# Altium integrated library TI Power Management Battery Management.IntLib: 949 symbols (part 56 of 62)
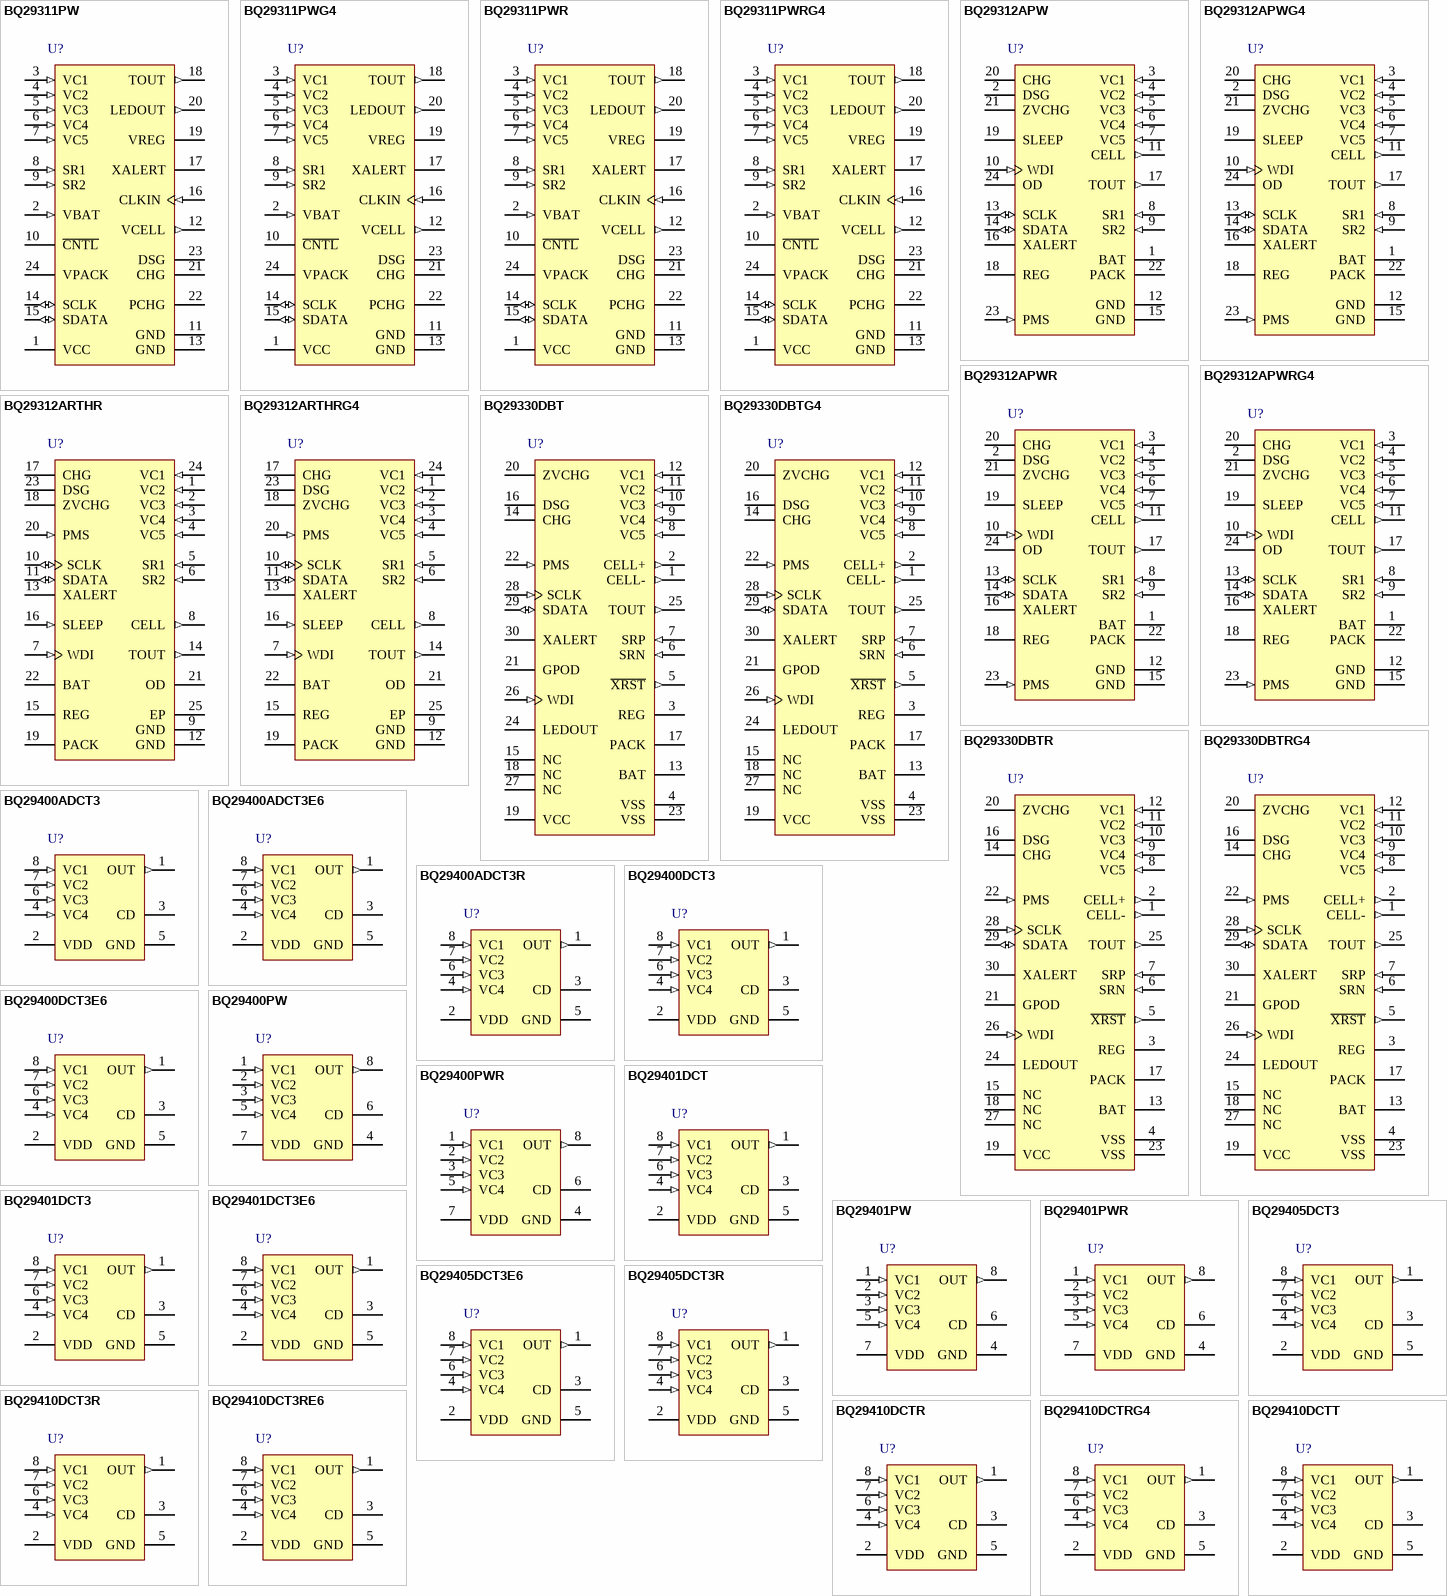
[diagram p89: symbols BQ29311PW to BQ29410DCTT]

## BQ29311PWG4
designator U?
3 to 4 Cell Lithium-Ion Protection IC for Use with BQ2083 / 5, -25 to 85 degC, 24-pin TSSOP (PW), Green (RoHS & no Sb/Br); PartNumber: BQ29311PWG4; Manufacturer: Texas Instruments; Lead Acid: N; Li-Ion: Y; SubFamily: Lithium Ion Protection; DatasheetVersion: SLUS487D; PackageVersion: revG, Feb-2011; PackageReference: PW24; PackageDescription: 24-Pin Thin Small Outline Package 0.65 mm Pitch; Supplier 1: Digi-Key; Supplier Part Number 1: BQ29311PWG4-ND; Supplier 2: Newark; Supplier Part Number 2: 27M2189; Supplier 3: Mouser; Supplier Part Number 3: 595-BQ29311PWG4; Eco-Plan: Green (RoHS & no Sb/Br); Li-Polymer: Y; NiCd: N; NiMH: N; Over Voltage Protection: Y; Mounting Technology: Surface Mount; Code_JEDEC: MO-153; ComponentLink1Description: Datasheet; ComponentLink1URL: http://www.ti.com/general/docs/lit/getliterature.tsp?genericPartNumber=BQ29311&fileType=pdf
footprint PW24_N (TSOP, 24-Leads, Body 7.8x4.4mm, Pitch 0.65mm, IPC Medium Density)
footprint PW24_L (TSOP, 24-Leads, Body 7.8x4.4mm, Pitch 0.65mm, IPC High Density)
footprint PW24_M (TSOP, 24-Leads, Body 7.8x4.4mm, Pitch 0.65mm, IPC Low Density)
pins: 1 VCC (power) "Diode protected BAT+ terminal and primary power source", 2 VBAT (in) "Battery positive terminal sense input for regulator shutdown", 3 VC1 (in) "Sense voltage input terminal for most positive cell and balance current input for most positive cell. Connected to VC2 in 3-cell applications", 4 VC2 (in) "Sense voltage input terminal for second most positive cell, balance current input for second most positive cell, and return balance current for most positive cell", 5 VC3 (in) "Sense voltage input terminal for third most positive cell, balance current input for third most positive cell and return balance current for second most positive cell", 6 VC4 (in) "Sense voltage input terminal for least positive cell, balance current input for least positive cell, and return balance current for third most positive cell", 7 VC5 (in) "Sense voltage input terminal for most negative cell, return balance current for least positive cell", 8 SR1 (in) "Current sense positive terminal when charging relative to SR2", 9 SR2 (in) "Current sense positive terminal when discharging relative to SR1", 10 ~{CNTL} "Active low input enables CHG, DSG and PCHG. Internal pullup", 11 GND (power) "Analog ground pin and negative pack terminal", 12 VCELL (out) "Output of scaled value of the measured cell voltage", 13 GND (power) "Analog ground pin and negative pack terminal", 14 SCLK (io) "Open-drain bidirectional serial interface clock with internal 10-kO pullup to VREG", 15 SDATA (io) "Open-drain bidirectional serial interface data with internal 10-kO pullup to VREG", 16 CLKIN (in) "Digital input that provides an alternate clock with internal 100-kO pullup to VREG", 17 XALERT (oc) "Open-drain output used to indicate status register changes. With internal 100 kO pullup to VREG", 18 TOUT (out) "Provides thermistor bias current", 19 VREG (power) "Integrated 3.3-V regulator output", 20 LEDOUT (out) "Provides current to drive LED capacity display", 21 CHG "Push-pull output charge FET gate voltage supply", 22 PCHG "Push-pull output precharge FET gate voltage supply", 23 DSG "Push-pull output discharge FET gate voltage supply", 24 VPACK (power) "Pack positive terminal and alternate power source"

## BQ29311PWR
designator U?
3 to 4 Cell Lithium-Ion Protection IC for Use with BQ2083 / 5, -25 to 85 degC, 24-pin TSSOP (PW), Green (RoHS & no Sb/Br); PartNumber: BQ29311PWR; Manufacturer: Texas Instruments; Lead Acid: N; Li-Ion: Y; SubFamily: Lithium Ion Protection; DatasheetVersion: SLUS487D; PackageVersion: revG, Feb-2011; PackageReference: PW24; PackageDescription: 24-Pin Thin Small Outline Package 0.65 mm Pitch; Supplier 1: Digi-Key; Supplier Part Number 1: BQ29311PWR-ND; Supplier 2: Newark; Supplier Part Number 2: 74C7683; Supplier 3: Mouser; Supplier Part Number 3: 595-BQ29311PWR; Eco-Plan: Green (RoHS & no Sb/Br); Li-Polymer: Y; NiCd: N; NiMH: N; Over Voltage Protection: Y; Mounting Technology: Surface Mount; Code_JEDEC: MO-153; ComponentLink1Description: Datasheet; ComponentLink1URL: http://www.ti.com/general/docs/lit/getliterature.tsp?genericPartNumber=BQ29311&fileType=pdf
footprint PW24_N (TSOP, 24-Leads, Body 7.8x4.4mm, Pitch 0.65mm, IPC Medium Density)
footprint PW24_L (TSOP, 24-Leads, Body 7.8x4.4mm, Pitch 0.65mm, IPC High Density)
footprint PW24_M (TSOP, 24-Leads, Body 7.8x4.4mm, Pitch 0.65mm, IPC Low Density)
pins: 1 VCC (power) "Diode protected BAT+ terminal and primary power source", 2 VBAT (in) "Battery positive terminal sense input for regulator shutdown", 3 VC1 (in) "Sense voltage input terminal for most positive cell and balance current input for most positive cell. Connected to VC2 in 3-cell applications", 4 VC2 (in) "Sense voltage input terminal for second most positive cell, balance current input for second most positive cell, and return balance current for most positive cell", 5 VC3 (in) "Sense voltage input terminal for third most positive cell, balance current input for third most positive cell and return balance current for second most positive cell", 6 VC4 (in) "Sense voltage input terminal for least positive cell, balance current input for least positive cell, and return balance current for third most positive cell", 7 VC5 (in) "Sense voltage input terminal for most negative cell, return balance current for least positive cell", 8 SR1 (in) "Current sense positive terminal when charging relative to SR2", 9 SR2 (in) "Current sense positive terminal when discharging relative to SR1", 10 ~{CNTL} "Active low input enables CHG, DSG and PCHG. Internal pullup", 11 GND (power) "Analog ground pin and negative pack terminal", 12 VCELL (out) "Output of scaled value of the measured cell voltage", 13 GND (power) "Analog ground pin and negative pack terminal", 14 SCLK (io) "Open-drain bidirectional serial interface clock with internal 10-kO pullup to VREG", 15 SDATA (io) "Open-drain bidirectional serial interface data with internal 10-kO pullup to VREG", 16 CLKIN (in) "Digital input that provides an alternate clock with internal 100-kO pullup to VREG", 17 XALERT (oc) "Open-drain output used to indicate status register changes. With internal 100 kO pullup to VREG", 18 TOUT (out) "Provides thermistor bias current", 19 VREG (power) "Integrated 3.3-V regulator output", 20 LEDOUT (out) "Provides current to drive LED capacity display", 21 CHG "Push-pull output charge FET gate voltage supply", 22 PCHG "Push-pull output precharge FET gate voltage supply", 23 DSG "Push-pull output discharge FET gate voltage supply", 24 VPACK (power) "Pack positive terminal and alternate power source"

## BQ29311PWRG4
designator U?
3 to 4 Cell Lithium-Ion Protection IC for Use with BQ2083 / 5, -25 to 85 degC, 24-pin TSSOP (PW), Green (RoHS & no Sb/Br); PartNumber: BQ29311PWRG4; Manufacturer: Texas Instruments; Lead Acid: N; Li-Ion: Y; SubFamily: Lithium Ion Protection; DatasheetVersion: SLUS487D; PackageVersion: revG, Feb-2011; PackageReference: PW24; PackageDescription: 24-Pin Thin Small Outline Package 0.65 mm Pitch; Supplier 1: Digi-Key; Supplier Part Number 1: BQ29311PWRG4-ND; Supplier 2: Newark; Supplier Part Number 2: 24K4404; Supplier 3: Mouser; Supplier Part Number 3: 595-BQ29311PWRG4; Eco-Plan: Green (RoHS & no Sb/Br); Li-Polymer: Y; NiCd: N; NiMH: N; Over Voltage Protection: Y; Mounting Technology: Surface Mount; Code_JEDEC: MO-153; ComponentLink1Description: Datasheet; ComponentLink1URL: http://www.ti.com/general/docs/lit/getliterature.tsp?genericPartNumber=BQ29311&fileType=pdf
footprint PW24_N (TSOP, 24-Leads, Body 7.8x4.4mm, Pitch 0.65mm, IPC Medium Density)
footprint PW24_L (TSOP, 24-Leads, Body 7.8x4.4mm, Pitch 0.65mm, IPC High Density)
footprint PW24_M (TSOP, 24-Leads, Body 7.8x4.4mm, Pitch 0.65mm, IPC Low Density)
pins: 1 VCC (power) "Diode protected BAT+ terminal and primary power source", 2 VBAT (in) "Battery positive terminal sense input for regulator shutdown", 3 VC1 (in) "Sense voltage input terminal for most positive cell and balance current input for most positive cell. Connected to VC2 in 3-cell applications", 4 VC2 (in) "Sense voltage input terminal for second most positive cell, balance current input for second most positive cell, and return balance current for most positive cell", 5 VC3 (in) "Sense voltage input terminal for third most positive cell, balance current input for third most positive cell and return balance current for second most positive cell", 6 VC4 (in) "Sense voltage input terminal for least positive cell, balance current input for least positive cell, and return balance current for third most positive cell", 7 VC5 (in) "Sense voltage input terminal for most negative cell, return balance current for least positive cell", 8 SR1 (in) "Current sense positive terminal when charging relative to SR2", 9 SR2 (in) "Current sense positive terminal when discharging relative to SR1", 10 ~{CNTL} "Active low input enables CHG, DSG and PCHG. Internal pullup", 11 GND (power) "Analog ground pin and negative pack terminal", 12 VCELL (out) "Output of scaled value of the measured cell voltage", 13 GND (power) "Analog ground pin and negative pack terminal", 14 SCLK (io) "Open-drain bidirectional serial interface clock with internal 10-kO pullup to VREG", 15 SDATA (io) "Open-drain bidirectional serial interface data with internal 10-kO pullup to VREG", 16 CLKIN (in) "Digital input that provides an alternate clock with internal 100-kO pullup to VREG", 17 XALERT (oc) "Open-drain output used to indicate status register changes. With internal 100 kO pullup to VREG", 18 TOUT (out) "Provides thermistor bias current", 19 VREG (power) "Integrated 3.3-V regulator output", 20 LEDOUT (out) "Provides current to drive LED capacity display", 21 CHG "Push-pull output charge FET gate voltage supply", 22 PCHG "Push-pull output precharge FET gate voltage supply", 23 DSG "Push-pull output discharge FET gate voltage supply", 24 VPACK (power) "Pack positive terminal and alternate power source"

## BQ29312APW
designator U?
Two, Three and Four Cell Lithium or Lithium-Polymer Battery Protection AFE, -40 to 85 degC, 24-pin TSSOP (PW), Green (RoHS & no Sb/Br); PartNumber: BQ29312APW; Manufacturer: Texas Instruments; Lead Acid: N; Li-Ion: Y; SubFamily: Lithium Ion Protection; DatasheetVersion: SLUS629A; PackageVersion: revG, Feb-2011; PackageReference: PW24; PackageDescription: 24-Pin Thin Small Outline Package 0.65 mm Pitch; Supplier 1: Digi-Key; Supplier Part Number 1: 296-18644-5-ND; Supplier 2: Newark; Supplier Part Number 2: 28K2829; Supplier 3: Mouser; Supplier Part Number 3: 595-BQ29312APW; Eco-Plan: Green (RoHS & no Sb/Br); Li-Polymer: Y; NiCd: N; NiMH: N; Over Voltage Protection: Y; Mounting Technology: Surface Mount; Code_JEDEC: MO-153; ComponentLink1Description: Datasheet; ComponentLink1URL: http://www.ti.com/general/docs/lit/getliterature.tsp?genericPartNumber=BQ29312A&fileType=pdf
footprint PW24_N (TSOP, 24-Leads, Body 7.8x4.4mm, Pitch 0.65mm, IPC Medium Density)
footprint PW24_L (TSOP, 24-Leads, Body 7.8x4.4mm, Pitch 0.65mm, IPC High Density)
footprint PW24_M (TSOP, 24-Leads, Body 7.8x4.4mm, Pitch 0.65mm, IPC Low Density)
pins: 1 BAT (power) "Diode protected BAT+ terminal and primary power source.", 2 DSG "Push-pull output discharge FET gate drive", 3 VC1 (in) "Sense voltage input terminal for most-positive cell and balance current input for most-positive cell.", 4 VC2 (in) "Sense voltage input terminal for second most-positive cell, balance current input for second most-positive cell and return balance current for most-positive cell.", 5 VC3 (in) "Sense voltage input terminal for third most-positive cell, balance current input for third most-positive cell and return balance current for second most-positive cell.", 6 VC4 (in) "Sense voltage input terminal for least-positive cell, balance current input for least-positive cell and return balance current for third most-positive cell.", 7 VC5 (in) "Sense voltage input terminal for most-negative cell, return balance current for least-positive cell.", 8 SR1 (in) "Current sense positive terminal when charging relative to SR2", 9 SR2 (in) "Current sense negative terminal when discharging relative to SR2 current sense terminal", 10 WDI (in) "Digital input that provides the timing clock for the OC and SC delays and also acts as the watchdog clock.", 11 CELL (out) "Output of scaled value of the measured cell voltage.", 12 GND (power) "Analog ground pin and negative pack terminal", 13 SCLK (io) "Open-drain bidirectional serial interface clock with internal 10-k ohm pullup to V(REG).", 14 SDATA (io) "Open-drain bidirectional serial interface data with internal 10-k ohm pullup to V(REG).", 15 GND (power) "Connect to GND", 16 XALERT (oc) "Open-drain output used to indicate status register changes. With internal 100-k ohm pullup to V(REG)", 17 TOUT (out) "Provides thermistor bias current", 18 REG (power) "Integrated 3.3-V regulator output", 19 SLEEP "This pin is pulled up to V(REG) internally, open or H level makes Sleep mode", 20 CHG "Push-pull output charge FET gate drive", 21 ZVCHG "The ZVCHG FET drive is connected here", 22 PACK (power) "PACK positive terminal and alternative power source", 23 PMS (in) "0-V charge configuration select pin, CHG terminal ON/OFF is determined by this pin.", 24 OD (hiz) "NCH FET open-drain output"

## BQ29312APWG4
designator U?
Two, Three and Four Cell Lithium or Lithium-Polymer Battery Protection AFE, -40 to 85 degC, 24-pin TSSOP (PW), Green (RoHS & no Sb/Br); PartNumber: BQ29312APWG4; Manufacturer: Texas Instruments; Lead Acid: N; Li-Ion: Y; SubFamily: Lithium Ion Protection; DatasheetVersion: SLUS629A; PackageVersion: revG, Feb-2011; PackageReference: PW24; PackageDescription: 24-Pin Thin Small Outline Package 0.65 mm Pitch; Supplier 1: Digi-Key; Supplier Part Number 1: BQ29312APWG4-ND; Supplier 2: Newark; Supplier Part Number 2: 80K5709; Supplier 3: Mouser; Supplier Part Number 3: 595-BQ29312APWG4; Eco-Plan: Green (RoHS & no Sb/Br); Li-Polymer: Y; NiCd: N; NiMH: N; Over Voltage Protection: Y; Mounting Technology: Surface Mount; Code_JEDEC: MO-153; ComponentLink1Description: Datasheet; ComponentLink1URL: http://www.ti.com/general/docs/lit/getliterature.tsp?genericPartNumber=BQ29312A&fileType=pdf
footprint PW24_N (TSOP, 24-Leads, Body 7.8x4.4mm, Pitch 0.65mm, IPC Medium Density)
footprint PW24_L (TSOP, 24-Leads, Body 7.8x4.4mm, Pitch 0.65mm, IPC High Density)
footprint PW24_M (TSOP, 24-Leads, Body 7.8x4.4mm, Pitch 0.65mm, IPC Low Density)
pins: 1 BAT (power) "Diode protected BAT+ terminal and primary power source.", 2 DSG "Push-pull output discharge FET gate drive", 3 VC1 (in) "Sense voltage input terminal for most-positive cell and balance current input for most-positive cell.", 4 VC2 (in) "Sense voltage input terminal for second most-positive cell, balance current input for second most-positive cell and return balance current for most-positive cell.", 5 VC3 (in) "Sense voltage input terminal for third most-positive cell, balance current input for third most-positive cell and return balance current for second most-positive cell.", 6 VC4 (in) "Sense voltage input terminal for least-positive cell, balance current input for least-positive cell and return balance current for third most-positive cell.", 7 VC5 (in) "Sense voltage input terminal for most-negative cell, return balance current for least-positive cell.", 8 SR1 (in) "Current sense positive terminal when charging relative to SR2", 9 SR2 (in) "Current sense negative terminal when discharging relative to SR2 current sense terminal", 10 WDI (in) "Digital input that provides the timing clock for the OC and SC delays and also acts as the watchdog clock.", 11 CELL (out) "Output of scaled value of the measured cell voltage.", 12 GND (power) "Analog ground pin and negative pack terminal", 13 SCLK (io) "Open-drain bidirectional serial interface clock with internal 10-k ohm pullup to V(REG).", 14 SDATA (io) "Open-drain bidirectional serial interface data with internal 10-k ohm pullup to V(REG).", 15 GND (power) "Connect to GND", 16 XALERT (oc) "Open-drain output used to indicate status register changes. With internal 100-k ohm pullup to V(REG)", 17 TOUT (out) "Provides thermistor bias current", 18 REG (power) "Integrated 3.3-V regulator output", 19 SLEEP "This pin is pulled up to V(REG) internally, open or H level makes Sleep mode", 20 CHG "Push-pull output charge FET gate drive", 21 ZVCHG "The ZVCHG FET drive is connected here", 22 PACK (power) "PACK positive terminal and alternative power source", 23 PMS (in) "0-V charge configuration select pin, CHG terminal ON/OFF is determined by this pin.", 24 OD (hiz) "NCH FET open-drain output"

## BQ29312APWR
designator U?
Two, Three and Four Cell Lithium or Lithium-Polymer Battery Protection AFE, -40 to 85 degC, 24-pin TSSOP (PW), Green (RoHS & no Sb/Br); PartNumber: BQ29312APWR; Manufacturer: Texas Instruments; Lead Acid: N; Li-Ion: Y; SubFamily: Lithium Ion Protection; DatasheetVersion: SLUS629A; PackageVersion: revG, Feb-2011; PackageReference: PW24; PackageDescription: 24-Pin Thin Small Outline Package 0.65 mm Pitch; Supplier 1: Digi-Key; Supplier Part Number 1: 296-25926-2-ND; Supplier 2: Digi-Key; Supplier Part Number 2: 296-25926-1-ND; Supplier 3: Digi-Key; Supplier Part Number 3: 296-25926-6-ND; Supplier 4: Newark; Supplier Part Number 4: 28K2830; Supplier 5: Mouser; Supplier Part Number 5: 595-BQ29312APWR; Eco-Plan: Green (RoHS & no Sb/Br); Li-Polymer: Y; NiCd: N; NiMH: N; Over Voltage Protection: Y; Mounting Technology: Surface Mount; Code_JEDEC: MO-153; ComponentLink1Description: Datasheet; ComponentLink1URL: http://www.ti.com/general/docs/lit/getliterature.tsp?genericPartNumber=BQ29312A&fileType=pdf
footprint PW24_N (TSOP, 24-Leads, Body 7.8x4.4mm, Pitch 0.65mm, IPC Medium Density)
footprint PW24_L (TSOP, 24-Leads, Body 7.8x4.4mm, Pitch 0.65mm, IPC High Density)
footprint PW24_M (TSOP, 24-Leads, Body 7.8x4.4mm, Pitch 0.65mm, IPC Low Density)
pins: 1 BAT (power) "Diode protected BAT+ terminal and primary power source.", 2 DSG "Push-pull output discharge FET gate drive", 3 VC1 (in) "Sense voltage input terminal for most-positive cell and balance current input for most-positive cell.", 4 VC2 (in) "Sense voltage input terminal for second most-positive cell, balance current input for second most-positive cell and return balance current for most-positive cell.", 5 VC3 (in) "Sense voltage input terminal for third most-positive cell, balance current input for third most-positive cell and return balance current for second most-positive cell.", 6 VC4 (in) "Sense voltage input terminal for least-positive cell, balance current input for least-positive cell and return balance current for third most-positive cell.", 7 VC5 (in) "Sense voltage input terminal for most-negative cell, return balance current for least-positive cell.", 8 SR1 (in) "Current sense positive terminal when charging relative to SR2", 9 SR2 (in) "Current sense negative terminal when discharging relative to SR2 current sense terminal", 10 WDI (in) "Digital input that provides the timing clock for the OC and SC delays and also acts as the watchdog clock.", 11 CELL (out) "Output of scaled value of the measured cell voltage.", 12 GND (power) "Analog ground pin and negative pack terminal", 13 SCLK (io) "Open-drain bidirectional serial interface clock with internal 10-k ohm pullup to V(REG).", 14 SDATA (io) "Open-drain bidirectional serial interface data with internal 10-k ohm pullup to V(REG).", 15 GND (power) "Connect to GND", 16 XALERT (oc) "Open-drain output used to indicate status register changes. With internal 100-k ohm pullup to V(REG)", 17 TOUT (out) "Provides thermistor bias current", 18 REG (power) "Integrated 3.3-V regulator output", 19 SLEEP "This pin is pulled up to V(REG) internally, open or H level makes Sleep mode", 20 CHG "Push-pull output charge FET gate drive", 21 ZVCHG "The ZVCHG FET drive is connected here", 22 PACK (power) "PACK positive terminal and alternative power source", 23 PMS (in) "0-V charge configuration select pin, CHG terminal ON/OFF is determined by this pin.", 24 OD (hiz) "NCH FET open-drain output"

## BQ29312APWRG4
designator U?
Two, Three and Four Cell Lithium or Lithium-Polymer Battery Protection AFE, -40 to 85 degC, 24-pin TSSOP (PW), Green (RoHS & no Sb/Br); PartNumber: BQ29312APWRG4; Manufacturer: Texas Instruments; Lead Acid: N; Li-Ion: Y; SubFamily: Lithium Ion Protection; DatasheetVersion: SLUS629A; PackageVersion: revG, Feb-2011; PackageReference: PW24; PackageDescription: 24-Pin Thin Small Outline Package 0.65 mm Pitch; Supplier 1: Digi-Key; Supplier Part Number 1: BQ29312APWRG4-ND; Supplier 2: Newark; Supplier Part Number 2: 84K0854; Supplier 3: Mouser; Supplier Part Number 3: 595-BQ29312APWRG4; Eco-Plan: Green (RoHS & no Sb/Br); Li-Polymer: Y; NiCd: N; NiMH: N; Over Voltage Protection: Y; Mounting Technology: Surface Mount; Code_JEDEC: MO-153; ComponentLink1Description: Datasheet; ComponentLink1URL: http://www.ti.com/general/docs/lit/getliterature.tsp?genericPartNumber=BQ29312A&fileType=pdf
footprint PW24_N (TSOP, 24-Leads, Body 7.8x4.4mm, Pitch 0.65mm, IPC Medium Density)
footprint PW24_L (TSOP, 24-Leads, Body 7.8x4.4mm, Pitch 0.65mm, IPC High Density)
footprint PW24_M (TSOP, 24-Leads, Body 7.8x4.4mm, Pitch 0.65mm, IPC Low Density)
pins: 1 BAT (power) "Diode protected BAT+ terminal and primary power source.", 2 DSG "Push-pull output discharge FET gate drive", 3 VC1 (in) "Sense voltage input terminal for most-positive cell and balance current input for most-positive cell.", 4 VC2 (in) "Sense voltage input terminal for second most-positive cell, balance current input for second most-positive cell and return balance current for most-positive cell.", 5 VC3 (in) "Sense voltage input terminal for third most-positive cell, balance current input for third most-positive cell and return balance current for second most-positive cell.", 6 VC4 (in) "Sense voltage input terminal for least-positive cell, balance current input for least-positive cell and return balance current for third most-positive cell.", 7 VC5 (in) "Sense voltage input terminal for most-negative cell, return balance current for least-positive cell.", 8 SR1 (in) "Current sense positive terminal when charging relative to SR2", 9 SR2 (in) "Current sense negative terminal when discharging relative to SR2 current sense terminal", 10 WDI (in) "Digital input that provides the timing clock for the OC and SC delays and also acts as the watchdog clock.", 11 CELL (out) "Output of scaled value of the measured cell voltage.", 12 GND (power) "Analog ground pin and negative pack terminal", 13 SCLK (io) "Open-drain bidirectional serial interface clock with internal 10-k ohm pullup to V(REG).", 14 SDATA (io) "Open-drain bidirectional serial interface data with internal 10-k ohm pullup to V(REG).", 15 GND (power) "Connect to GND", 16 XALERT (oc) "Open-drain output used to indicate status register changes. With internal 100-k ohm pullup to V(REG)", 17 TOUT (out) "Provides thermistor bias current", 18 REG (power) "Integrated 3.3-V regulator output", 19 SLEEP "This pin is pulled up to V(REG) internally, open or H level makes Sleep mode", 20 CHG "Push-pull output charge FET gate drive", 21 ZVCHG "The ZVCHG FET drive is connected here", 22 PACK (power) "PACK positive terminal and alternative power source", 23 PMS (in) "0-V charge configuration select pin, CHG terminal ON/OFF is determined by this pin.", 24 OD (hiz) "NCH FET open-drain output"

## BQ29312ARTHR
designator U?
Two, Three and Four Cell Lithium or Lithium-Polymer Battery Protection AFE, -40 to 85 degC, 24-pin VQFN (RTH), Green (RoHS & no Sb/Br); PartNumber: BQ29312ARTHR; Manufacturer: Texas Instruments; Lead Acid: N; Li-Ion: Y; SubFamily: Lithium Ion Protection; DatasheetVersion: SLUS629A; PackageVersion: revC, Feb-2011; PackageReference: RTH24-1200X1200TP; PackageDescription: 24-Pin Plastic Quad Flatpack No-Lead, 4 x 4 mm Body, 0.5 mm Pitch, Exposed Pad; Supplier 1: Digi-Key; Supplier Part Number 1: 296-19870-2-ND; Supplier 2: Digi-Key; Supplier Part Number 2: 296-19870-1-ND; Supplier 3: Digi-Key; Supplier Part Number 3: 296-19870-6-ND; Supplier 4: Newark; Supplier Part Number 4: 57K0725; Supplier 5: Mouser; Supplier Part Number 5: 595-BQ29312ARTHR; Eco-Plan: Green (RoHS & no Sb/Br); Li-Polymer: Y; NiCd: N; NiMH: N; Over Voltage Protection: Y; Mounting Technology: Surface Mount; ComponentLink1Description: Datasheet; ComponentLink1URL: http://www.ti.com/general/docs/lit/getliterature.tsp?genericPartNumber=BQ29312A&fileType=pdf
footprint RTH24-1200X1200TP (QFN, 24-Leads, Body 4x4mm, Pitch 0.5mm, Thermal Pad 1.2x1.2mm)
pins: 1 VC2 (in) "Sense voltage input terminal for second most-positive cell, balance current input for second most-positive cell and return balance current for most-positive cell.", 2 VC3 (in) "Sense voltage input terminal for third most-positive cell, balance current input for third most-positive cell and return balance current for second most-positive cell.", 3 VC4 (in) "Sense voltage input terminal for least-positive cell, balance current input for least-positive cell and return balance current for third most-positive cell.", 4 VC5 (in) "Sense voltage input terminal for most-negative cell, return balance current for least-positive cell.", 5 SR1 (in) "Current sense positive terminal when charging relative to SR2", 6 SR2 (in) "Current sense negative terminal when discharging relative to SR2 current sense terminal", 7 WDI (in) "Digital input that provides the timing clock for the OC and SC delays and also acts as the watchdog clock.", 8 CELL (out) "Output of scaled value of the measured cell voltage.", 9 GND (power) "Analog ground pin and negative pack terminal", 10 SCLK (io) "Open-drain bidirectional serial interface clock with internal 10-kohm pullup to V(REG)", 11 SDATA (io) "Open-drain bidirectional serial interface data with internal 10-kohm pullup to V(REG)", 12 GND (power) "Connect to GND", 13 XALERT (oc) "Open-drain output used to indicate status register changes. With internal 100-kohm pullup to V(REG)", 14 TOUT (out) "Provides thermistor bias current", 15 REG (power) "Integrated 3.3-V regulator output", 16 SLEEP (in) "This pin is pulled up to V(REG) internally, open or H level makes Sleep mode", 17 CHG "Push-pull output charge FET gate drive", 18 ZVCHG "The ZVCHG FET drive is connected here", 19 PACK (power) "PACK positive terminal and alternative power source", 20 PMS (in) "0-V charge configuration select pin, CHG terminal ON/OFF is determined by this pin.", 21 OD (hiz) "NCH FET open-drain output", 22 BAT (power) "Diode protected BAT+ terminal and primary power source.", 23 DSG "Push-pull output discharge FET gate drive", 24 VC1 (in) "Sense voltage input terminal for most-positive cell and balance current input for most-positive cell.", 25 EP "Thermal exposed pad"

## BQ29312ARTHRG4
designator U?
Two, Three and Four Cell Lithium or Lithium-Polymer Battery Protection AFE, -40 to 85 degC, 24-pin VQFN (RTH), Green (RoHS & no Sb/Br); PartNumber: BQ29312ARTHRG4; Manufacturer: Texas Instruments; Lead Acid: N; Li-Ion: Y; SubFamily: Lithium Ion Protection; DatasheetVersion: SLUS629A; PackageVersion: revC, Feb-2011; PackageReference: RTH24-1200X1200TP; PackageDescription: 24-Pin Plastic Quad Flatpack No-Lead, 4 x 4 mm Body, 0.5 mm Pitch, Exposed Pad; Supplier 1: Digi-Key; Supplier Part Number 1: BQ29312ARTHRG4-ND; Supplier 2: Newark; Supplier Part Number 2: 60K8848; Supplier 3: Mouser; Supplier Part Number 3: 595-BQ29312ARTHRG4; Eco-Plan: Green (RoHS & no Sb/Br); Li-Polymer: Y; NiCd: N; NiMH: N; Over Voltage Protection: Y; Mounting Technology: Surface Mount; ComponentLink1Description: Datasheet; ComponentLink1URL: http://www.ti.com/general/docs/lit/getliterature.tsp?genericPartNumber=BQ29312A&fileType=pdf
footprint RTH24-1200X1200TP (QFN, 24-Leads, Body 4x4mm, Pitch 0.5mm, Thermal Pad 1.2x1.2mm)
pins: 1 VC2 (in) "Sense voltage input terminal for second most-positive cell, balance current input for second most-positive cell and return balance current for most-positive cell.", 2 VC3 (in) "Sense voltage input terminal for third most-positive cell, balance current input for third most-positive cell and return balance current for second most-positive cell.", 3 VC4 (in) "Sense voltage input terminal for least-positive cell, balance current input for least-positive cell and return balance current for third most-positive cell.", 4 VC5 (in) "Sense voltage input terminal for most-negative cell, return balance current for least-positive cell.", 5 SR1 (in) "Current sense positive terminal when charging relative to SR2", 6 SR2 (in) "Current sense negative terminal when discharging relative to SR2 current sense terminal", 7 WDI (in) "Digital input that provides the timing clock for the OC and SC delays and also acts as the watchdog clock.", 8 CELL (out) "Output of scaled value of the measured cell voltage.", 9 GND (power) "Analog ground pin and negative pack terminal", 10 SCLK (io) "Open-drain bidirectional serial interface clock with internal 10-kohm pullup to V(REG)", 11 SDATA (io) "Open-drain bidirectional serial interface data with internal 10-kohm pullup to V(REG)", 12 GND (power) "Connect to GND", 13 XALERT (oc) "Open-drain output used to indicate status register changes. With internal 100-kohm pullup to V(REG)", 14 TOUT (out) "Provides thermistor bias current", 15 REG (power) "Integrated 3.3-V regulator output", 16 SLEEP (in) "This pin is pulled up to V(REG) internally, open or H level makes Sleep mode", 17 CHG "Push-pull output charge FET gate drive", 18 ZVCHG "The ZVCHG FET drive is connected here", 19 PACK (power) "PACK positive terminal and alternative power source", 20 PMS (in) "0-V charge configuration select pin, CHG terminal ON/OFF is determined by this pin.", 21 OD (hiz) "NCH FET open-drain output", 22 BAT (power) "Diode protected BAT+ terminal and primary power source.", 23 DSG "Push-pull output discharge FET gate drive", 24 VC1 (in) "Sense voltage input terminal for most-positive cell and balance current input for most-positive cell.", 25 EP "Thermal exposed pad"

## BQ29330DBT
designator U?
Two, Three and Four Cell Lithium or Lithium-Polymer Battery Protection AFE, -40 to 110 degC, 30-pin TSSOP (DBT), Green (RoHS & no Sb/Br); PartNumber: BQ29330DBT; Manufacturer: Texas Instruments; Lead Acid: N; Li-Ion: Y; SubFamily: Lithium Ion Protection; DatasheetVersion: SLUS673E; PackageVersion: 38596; PackageReference: DBT30; PackageDescription: 30-Pin Thin Shrink Small Outline Package 0.5 mm Pitch; Supplier 1: Digi-Key; Supplier Part Number 1: 296-18607-5-ND; Supplier 2: Farnell; Supplier Part Number 2: 2125387; Supplier 3: Newark; Supplier Part Number 3: 58K5583; Supplier 4: Mouser; Supplier Part Number 4: 595-BQ29330DBT; Eco-Plan: Green (RoHS & no Sb/Br); Li-Polymer: Y; NiCd: N; NiMH: N; Over Voltage Protection: Y; Mounting Technology: Surface Mount; Code_JEDEC: MO-153; ComponentLink1Description: Datasheet; ComponentLink1URL: http://www.ti.com/general/docs/lit/getliterature.tsp?genericPartNumber=BQ29330&fileType=pdf
footprint DBT30_N (TSSOP, 30-Leads, Body 7.8x4.4mm, Pitch 0.5mm, IPC Medium Density)
footprint DBT30_L (TSSOP, 30-Leads, Body 7.8x4.4mm, Pitch 0.5mm, IPC High Density)
footprint DBT30_M (TSSOP, 30-Leads, Body 7.8x4.4mm, Pitch 0.5mm, IPC Low Density)
pins: 1 CELL- (out) "Output of scaled value of the measured cell voltage.", 2 CELL+ (out) "Output of scaled value of the measured cell voltage.", 3 REG (power) "Integrated 2.5-V regulator output", 4 VSS (power) "Power supply ground", 5 ~{XRST} (out) "Active-low output", 6 SRN (in) "Current sense terminal", 7 SRP (in) "Current sense positive terminal when charging relative to SRN; current sense negative terminal when discharging relative to SRN", 8 VC5 (in) "Sense voltage input terminal for most negative cell; balance current input for least positive cell.", 9 VC4 (in) "Sense voltage input terminal for least positive cell, balance current input for least positive cell, and return balance current for third most positive cell.", 10 VC3 (in) "Sense voltage input terminal for third most positive cell, balance current input for third most positive cell, and return balance current for second most positive cell.", 11 VC2 (in) "Sense voltage input terminal for second most positive cell, balance current input for second most positive cell, and return balance current for most positive cell.", 12 VC1 (in) "Sense voltage input terminal for most positive cell, balance current input for most positive cell, and battery stack measurement input", 13 BAT (power) "Device power supply input", 14 CHG "Charge pump, charge N-CH FET gate drive", 15 NC "Not electrically connected to the IC", 16 DSG "Charge pump output, discharge N-CH FET gate drive", 17 PACK (power) "PACK positive terminal and alternative power source", 18 NC "Not electrically connected to the IC", 19 VCC (power) "Power supply voltage", 20 ZVCHG "Connect the precharge P-CH FET drive here", 21 GPOD (hiz) "NCH FET open-drain output", 22 PMS (in) "Determines CHG output state on POR", 23 VSS (power) "Power supply ground", 24 LEDOUT (power) "3.3-V output for LED display power supply", 25 TOUT (out) "Provides thermistor bias current", 26 WDI (in) "Digital input that provides the timing clock for the OC and SC delays and also acts as the watchdog clock.", 27 NC "Not electrically connected to the IC", 28 SCLK (in) "Open-drain serial interface clock with internal 10-k ohm pullup to VREG", 29 SDATA (io) "Open-drain bidirectional serial interface data with internal 10-k ohm pullup to VREG", 30 XALERT (oc) "Open-drain output used to indicate status register changes. With internal 100-k ohm pullup to VREG"

## BQ29330DBTG4
designator U?
Two, Three and Four Cell Lithium or Lithium-Polymer Battery Protection AFE, -40 to 110 degC, 30-pin TSSOP (DBT), Green (RoHS & no Sb/Br); PartNumber: BQ29330DBTG4; Manufacturer: Texas Instruments; Lead Acid: N; Li-Ion: Y; SubFamily: Lithium Ion Protection; DatasheetVersion: SLUS673E; PackageVersion: 38596; PackageReference: DBT30; PackageDescription: 30-Pin Thin Shrink Small Outline Package 0.5 mm Pitch; Supplier 1: Digi-Key; Supplier Part Number 1: BQ29330DBTG4-ND; Supplier 2: Newark; Supplier Part Number 2: 67K7905; Supplier 3: Mouser; Supplier Part Number 3: 595-BQ29330DBTG4; Eco-Plan: Green (RoHS & no Sb/Br); Li-Polymer: Y; NiCd: N; NiMH: N; Over Voltage Protection: Y; Mounting Technology: Surface Mount; Code_JEDEC: MO-153; ComponentLink1Description: Datasheet; ComponentLink1URL: http://www.ti.com/general/docs/lit/getliterature.tsp?genericPartNumber=BQ29330&fileType=pdf
footprint DBT30_N (TSSOP, 30-Leads, Body 7.8x4.4mm, Pitch 0.5mm, IPC Medium Density)
footprint DBT30_L (TSSOP, 30-Leads, Body 7.8x4.4mm, Pitch 0.5mm, IPC High Density)
footprint DBT30_M (TSSOP, 30-Leads, Body 7.8x4.4mm, Pitch 0.5mm, IPC Low Density)
pins: 1 CELL- (out) "Output of scaled value of the measured cell voltage.", 2 CELL+ (out) "Output of scaled value of the measured cell voltage.", 3 REG (power) "Integrated 2.5-V regulator output", 4 VSS (power) "Power supply ground", 5 ~{XRST} (out) "Active-low output", 6 SRN (in) "Current sense terminal", 7 SRP (in) "Current sense positive terminal when charging relative to SRN; current sense negative terminal when discharging relative to SRN", 8 VC5 (in) "Sense voltage input terminal for most negative cell; balance current input for least positive cell.", 9 VC4 (in) "Sense voltage input terminal for least positive cell, balance current input for least positive cell, and return balance current for third most positive cell.", 10 VC3 (in) "Sense voltage input terminal for third most positive cell, balance current input for third most positive cell, and return balance current for second most positive cell.", 11 VC2 (in) "Sense voltage input terminal for second most positive cell, balance current input for second most positive cell, and return balance current for most positive cell.", 12 VC1 (in) "Sense voltage input terminal for most positive cell, balance current input for most positive cell, and battery stack measurement input", 13 BAT (power) "Device power supply input", 14 CHG "Charge pump, charge N-CH FET gate drive", 15 NC "Not electrically connected to the IC", 16 DSG "Charge pump output, discharge N-CH FET gate drive", 17 PACK (power) "PACK positive terminal and alternative power source", 18 NC "Not electrically connected to the IC", 19 VCC (power) "Power supply voltage", 20 ZVCHG "Connect the precharge P-CH FET drive here", 21 GPOD (hiz) "NCH FET open-drain output", 22 PMS (in) "Determines CHG output state on POR", 23 VSS (power) "Power supply ground", 24 LEDOUT (power) "3.3-V output for LED display power supply", 25 TOUT (out) "Provides thermistor bias current", 26 WDI (in) "Digital input that provides the timing clock for the OC and SC delays and also acts as the watchdog clock.", 27 NC "Not electrically connected to the IC", 28 SCLK (in) "Open-drain serial interface clock with internal 10-k ohm pullup to VREG", 29 SDATA (io) "Open-drain bidirectional serial interface data with internal 10-k ohm pullup to VREG", 30 XALERT (oc) "Open-drain output used to indicate status register changes. With internal 100-k ohm pullup to VREG"

## BQ29330DBTR
designator U?
Two, Three and Four Cell Lithium or Lithium-Polymer Battery Protection AFE, -40 to 110 degC, 30-pin TSSOP (DBT), Green (RoHS & no Sb/Br); PartNumber: BQ29330DBTR; Manufacturer: Texas Instruments; Lead Acid: N; Li-Ion: Y; SubFamily: Lithium Ion Protection; DatasheetVersion: SLUS673E; PackageVersion: 38596; PackageReference: DBT30; PackageDescription: 30-Pin Thin Shrink Small Outline Package 0.5 mm Pitch; Supplier 1: Digi-Key; Supplier Part Number 1: 296-25927-2-ND; Supplier 2: Digi-Key; Supplier Part Number 2: 296-25927-1-ND; Supplier 3: Digi-Key; Supplier Part Number 3: 296-25927-6-ND; Supplier 4: Newark; Supplier Part Number 4: 58K5584; Supplier 5: Mouser; Supplier Part Number 5: 595-BQ29330DBTR; Eco-Plan: Green (RoHS & no Sb/Br); Li-Polymer: Y; NiCd: N; NiMH: N; Over Voltage Protection: Y; Mounting Technology: Surface Mount; Code_JEDEC: MO-153; ComponentLink1Description: Datasheet; ComponentLink1URL: http://www.ti.com/general/docs/lit/getliterature.tsp?genericPartNumber=BQ29330&fileType=pdf
footprint DBT30_N (TSSOP, 30-Leads, Body 7.8x4.4mm, Pitch 0.5mm, IPC Medium Density)
footprint DBT30_L (TSSOP, 30-Leads, Body 7.8x4.4mm, Pitch 0.5mm, IPC High Density)
footprint DBT30_M (TSSOP, 30-Leads, Body 7.8x4.4mm, Pitch 0.5mm, IPC Low Density)
pins: 1 CELL- (out) "Output of scaled value of the measured cell voltage.", 2 CELL+ (out) "Output of scaled value of the measured cell voltage.", 3 REG (power) "Integrated 2.5-V regulator output", 4 VSS (power) "Power supply ground", 5 ~{XRST} (out) "Active-low output", 6 SRN (in) "Current sense terminal", 7 SRP (in) "Current sense positive terminal when charging relative to SRN; current sense negative terminal when discharging relative to SRN", 8 VC5 (in) "Sense voltage input terminal for most negative cell; balance current input for least positive cell.", 9 VC4 (in) "Sense voltage input terminal for least positive cell, balance current input for least positive cell, and return balance current for third most positive cell.", 10 VC3 (in) "Sense voltage input terminal for third most positive cell, balance current input for third most positive cell, and return balance current for second most positive cell.", 11 VC2 (in) "Sense voltage input terminal for second most positive cell, balance current input for second most positive cell, and return balance current for most positive cell.", 12 VC1 (in) "Sense voltage input terminal for most positive cell, balance current input for most positive cell, and battery stack measurement input", 13 BAT (power) "Device power supply input", 14 CHG "Charge pump, charge N-CH FET gate drive", 15 NC "Not electrically connected to the IC", 16 DSG "Charge pump output, discharge N-CH FET gate drive", 17 PACK (power) "PACK positive terminal and alternative power source", 18 NC "Not electrically connected to the IC", 19 VCC (power) "Power supply voltage", 20 ZVCHG "Connect the precharge P-CH FET drive here", 21 GPOD (hiz) "NCH FET open-drain output", 22 PMS (in) "Determines CHG output state on POR", 23 VSS (power) "Power supply ground", 24 LEDOUT (power) "3.3-V output for LED display power supply", 25 TOUT (out) "Provides thermistor bias current", 26 WDI (in) "Digital input that provides the timing clock for the OC and SC delays and also acts as the watchdog clock.", 27 NC "Not electrically connected to the IC", 28 SCLK (in) "Open-drain serial interface clock with internal 10-k ohm pullup to VREG", 29 SDATA (io) "Open-drain bidirectional serial interface data with internal 10-k ohm pullup to VREG", 30 XALERT (oc) "Open-drain output used to indicate status register changes. With internal 100-k ohm pullup to VREG"

## BQ29330DBTRG4
designator U?
Two, Three and Four Cell Lithium or Lithium-Polymer Battery Protection AFE, -40 to 110 degC, 30-pin TSSOP (DBT), Green (RoHS & no Sb/Br); PartNumber: BQ29330DBTRG4; Manufacturer: Texas Instruments; Lead Acid: N; Li-Ion: Y; SubFamily: Lithium Ion Protection; DatasheetVersion: SLUS673E; PackageVersion: 38596; PackageReference: DBT30; PackageDescription: 30-Pin Thin Shrink Small Outline Package 0.5 mm Pitch; Supplier 1: Digi-Key; Supplier Part Number 1: BQ29330DBTRG4-ND; Supplier 2: Newark; Supplier Part Number 2: 80K5710; Supplier 3: Mouser; Supplier Part Number 3: 595-BQ29330DBTRG4; Eco-Plan: Green (RoHS & no Sb/Br); Li-Polymer: Y; NiCd: N; NiMH: N; Over Voltage Protection: Y; Mounting Technology: Surface Mount; Code_JEDEC: MO-153; ComponentLink1Description: Datasheet; ComponentLink1URL: http://www.ti.com/general/docs/lit/getliterature.tsp?genericPartNumber=BQ29330&fileType=pdf
footprint DBT30_N (TSSOP, 30-Leads, Body 7.8x4.4mm, Pitch 0.5mm, IPC Medium Density)
footprint DBT30_L (TSSOP, 30-Leads, Body 7.8x4.4mm, Pitch 0.5mm, IPC High Density)
footprint DBT30_M (TSSOP, 30-Leads, Body 7.8x4.4mm, Pitch 0.5mm, IPC Low Density)
pins: 1 CELL- (out) "Output of scaled value of the measured cell voltage.", 2 CELL+ (out) "Output of scaled value of the measured cell voltage.", 3 REG (power) "Integrated 2.5-V regulator output", 4 VSS (power) "Power supply ground", 5 ~{XRST} (out) "Active-low output", 6 SRN (in) "Current sense terminal", 7 SRP (in) "Current sense positive terminal when charging relative to SRN; current sense negative terminal when discharging relative to SRN", 8 VC5 (in) "Sense voltage input terminal for most negative cell; balance current input for least positive cell.", 9 VC4 (in) "Sense voltage input terminal for least positive cell, balance current input for least positive cell, and return balance current for third most positive cell.", 10 VC3 (in) "Sense voltage input terminal for third most positive cell, balance current input for third most positive cell, and return balance current for second most positive cell.", 11 VC2 (in) "Sense voltage input terminal for second most positive cell, balance current input for second most positive cell, and return balance current for most positive cell.", 12 VC1 (in) "Sense voltage input terminal for most positive cell, balance current input for most positive cell, and battery stack measurement input", 13 BAT (power) "Device power supply input", 14 CHG "Charge pump, charge N-CH FET gate drive", 15 NC "Not electrically connected to the IC", 16 DSG "Charge pump output, discharge N-CH FET gate drive", 17 PACK (power) "PACK positive terminal and alternative power source", 18 NC "Not electrically connected to the IC", 19 VCC (power) "Power supply voltage", 20 ZVCHG "Connect the precharge P-CH FET drive here", 21 GPOD (hiz) "NCH FET open-drain output", 22 PMS (in) "Determines CHG output state on POR", 23 VSS (power) "Power supply ground", 24 LEDOUT (power) "3.3-V output for LED display power supply", 25 TOUT (out) "Provides thermistor bias current", 26 WDI (in) "Digital input that provides the timing clock for the OC and SC delays and also acts as the watchdog clock.", 27 NC "Not electrically connected to the IC", 28 SCLK (in) "Open-drain serial interface clock with internal 10-k ohm pullup to VREG", 29 SDATA (io) "Open-drain bidirectional serial interface data with internal 10-k ohm pullup to VREG", 30 XALERT (oc) "Open-drain output used to indicate status register changes. With internal 100-k ohm pullup to VREG"

## BQ29400ADCT3
designator U?
2nd Level Over Voltage Protection for 2, 3 or 4 Cell LiIon & LiPoly Batteries (2nd Lev Protection), -25 to 85 degC, 8-pin SM8 (DCT), Pb-Free (RoHS); PartNumber: BQ29400ADCT3; Manufacturer: Texas Instruments; Lead Acid: N; Li-Ion: Y; SubFamily: Lithium Ion Protection; DatasheetVersion: SLUS568C; PackageVersion: revC, Sep-2002; PackageReference: DCT8; PackageDescription: 8-Pin Thin Small Outline Package 3 x 2.8 mm Body ,0.65 mm Pitch; Supplier 1: Digi-Key; Supplier Part Number 1: BQ29400ADCT3-ND; Supplier 2: Mouser; Supplier Part Number 2: 595-BQ29400ADCT3; Eco-Plan: Pb-Free (RoHS); Li-Polymer: Y; NiCd: N; NiMH: N; Over Voltage Protection: Y; Mounting Technology: Surface Mount; Code_JEDEC: MO-187-DA; ComponentLink1Description: Datasheet; ComponentLink1URL: http://www.ti.com/general/docs/lit/getliterature.tsp?genericPartNumber=BQ29400&fileType=pdf
footprint DCT8_N (TSOP, 8-Leads, Body 3x2.8mm, Pitch 0.65mm, IPC Medium Density)
footprint DCT8_L (TSOP, 8-Leads, Body 3x2.8mm, Pitch 0.65mm, IPC High Density)
footprint DCT8_M (TSOP, 8-Leads, Body 3x2.8mm, Pitch 0.65mm, IPC Low Density)
pins: 1 OUT (out) "Output", 2 VDD (power) "Power supply", 3 CD "An external capacitor is connected to determine the programmable delay time", 4 VC4 (in) "Sense voltage input for least positive cell", 5 GND (power) "Ground pin", 6 VC3 (in) "Sense voltage input for third most positive cell", 7 VC2 (in) "Sense voltage input for second most positive cell", 8 VC1 (in) "Sense voltage input for most positive cell"

## BQ29400ADCT3E6
designator U?
2nd Level Over Voltage Protection for 2, 3, or 4 Cell LiIon & LiPoly Batteries (2nd Lev Protection), -25 to 85 degC, 8-pin SM8 (DCT), Pb-Free (RoHS); PartNumber: BQ29400ADCT3E6; Manufacturer: Texas Instruments; Lead Acid: N; Li-Ion: Y; SubFamily: Lithium Ion Protection; DatasheetVersion: SLUS568C; PackageVersion: revC, Sep-2002; PackageReference: DCT8; PackageDescription: 8-Pin Thin Small Outline Package 3 x 2.8 mm Body ,0.65 mm Pitch; Supplier 1: Digi-Key; Supplier Part Number 1: BQ29400ADCT3E6-ND; Supplier 2: Mouser; Supplier Part Number 2: 595-BQ29400ADCT3E6; Eco-Plan: Pb-Free (RoHS); Li-Polymer: Y; NiCd: N; NiMH: N; Over Voltage Protection: Y; Mounting Technology: Surface Mount; Code_JEDEC: MO-187-DA; ComponentLink1Description: Datasheet; ComponentLink1URL: http://www.ti.com/general/docs/lit/getliterature.tsp?genericPartNumber=BQ29400&fileType=pdf
footprint DCT8_N (TSOP, 8-Leads, Body 3x2.8mm, Pitch 0.65mm, IPC Medium Density)
footprint DCT8_L (TSOP, 8-Leads, Body 3x2.8mm, Pitch 0.65mm, IPC High Density)
footprint DCT8_M (TSOP, 8-Leads, Body 3x2.8mm, Pitch 0.65mm, IPC Low Density)
pins: 1 OUT (out) "Output", 2 VDD (power) "Power supply", 3 CD "An external capacitor is connected to determine the programmable delay time", 4 VC4 (in) "Sense voltage input for least positive cell", 5 GND (power) "Ground pin", 6 VC3 (in) "Sense voltage input for third most positive cell", 7 VC2 (in) "Sense voltage input for second most positive cell", 8 VC1 (in) "Sense voltage input for most positive cell"

## BQ29400ADCT3R
designator U?
2nd Level Over Voltage Protection for 2, 3, or 4 Cell LiIon & LiPoly Batteries (2nd Lev Protection), -25 to 85 degC, 8-pin SM8 (DCT); PartNumber: BQ29400ADCT3R; Manufacturer: Texas Instruments; Lead Acid: N; Li-Ion: Y; SubFamily: Lithium Ion Protection; DatasheetVersion: SLUS568C; PackageVersion: revC, Sep-2002; PackageReference: DCT8; PackageDescription: 8-Pin Thin Small Outline Package 3 x 2.8 mm Body ,0.65 mm Pitch; Supplier 1: Digi-Key; Supplier Part Number 1: BQ29400ADCT3R-ND; Supplier 2: Mouser; Supplier Part Number 2: 595-BQ29400ADCT3R; Li-Polymer: Y; NiCd: N; NiMH: N; Over Voltage Protection: Y; Mounting Technology: Surface Mount; Code_JEDEC: MO-187-DA; ComponentLink1Description: Datasheet; ComponentLink1URL: http://www.ti.com/general/docs/lit/getliterature.tsp?genericPartNumber=BQ29400&fileType=pdf
footprint DCT8_N (TSOP, 8-Leads, Body 3x2.8mm, Pitch 0.65mm, IPC Medium Density)
footprint DCT8_L (TSOP, 8-Leads, Body 3x2.8mm, Pitch 0.65mm, IPC High Density)
footprint DCT8_M (TSOP, 8-Leads, Body 3x2.8mm, Pitch 0.65mm, IPC Low Density)
pins: 1 OUT (out) "Output", 2 VDD (power) "Power supply", 3 CD "An external capacitor is connected to determine the programmable delay time", 4 VC4 (in) "Sense voltage input for least positive cell", 5 GND (power) "Ground pin", 6 VC3 (in) "Sense voltage input for third most positive cell", 7 VC2 (in) "Sense voltage input for second most positive cell", 8 VC1 (in) "Sense voltage input for most positive cell"